# Altium integrated library 74HC14N.IntLib: 1 symbol
Pins are listed as number, name and electrical type; pins without a type are passive.

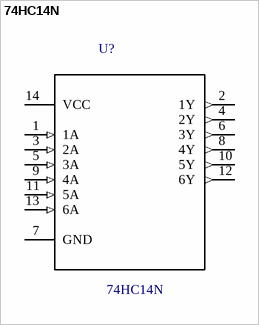
[diagram p0: symbol 74HC14N]

## 74HC14N
designator U?
/ Ti - Ti 74hc14n Sn74hc14n /; MF: Texas Instruments; SnapEDA_Link: https://www.snapeda.com/parts/74HC14N/Texas%20Instruments/view-part/?ref=snap; MP: 74HC14N; Availability: Unavailable; Price: None; Package: None; Value: *
footprint *DIP254P762X420-14
pins: 1 1A (in), 2 1Y (out), 3 2A (in), 4 2Y (out), 5 3A (in), 6 3Y (out), 7 GND, 8 4Y (out), 9 4A (in), 10 5Y (out), 11 5A (in), 12 6Y (out), 13 6A (in), 14 VCC (power)